# Altium footprint library Testboard.PcbLib: 2 footprints
Each footprint in its own frame and in the unit in brackets; x right, y up, seen from the top. Pads: shape width x height; smd on the part's side, far side on the other; paste and mask are expansions set on the pad; w line width, h text height; cw(c..) or ccw(c..) is an arc to the next point about the centre after c.
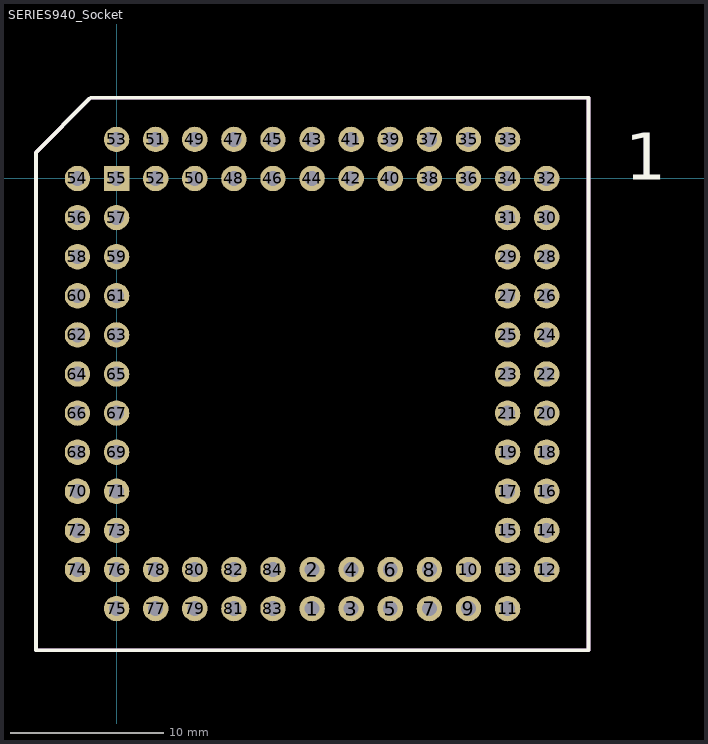
[diagram p0: the footprints below, top view; thin cyan lines are the x and y axes]

## PCBComponent_1 [mil]

## SERIES940_Socket [mil]
pads (84):
  round 65 hole 38: 1(500,-1100) 2(500,-1000) 3(600,-1100) 4(600,-1000) 5(700,-1100) 6(700,-1000) 7(800,-1100) 8(800,-1000) 9(900,-1100) 10(900,-1000) 11(1000,-1100) 12(1100,-1000) 13(1000,-1000) 14(1100,-900) 15(1000,-900) 16(1100,-800) 17(1000,-800) 18(1100,-700) 19(1000,-700) 20(1100,-600) 21(1000,-600) 22(1100,-500) 23(1000,-500) 24(1100,-400) 25(1000,-400) 26(1100,-300) 27(1000,-300) 28(1100,-200) 29(1000,-200) 30(1100,-100) 31(1000,-100) 32(1100,0) 33(1000,100) 34(1000,0) 35(900,100) 36(900,0) 37(800,100) 38(800,0) 39(700,100) 40(700,0) 41(600,100) 42(600,0) 43(500,100) 44(500,0) 45(400,100) 46(400,0) 47(300,100) 48(300,0) 49(200,100) 50(200,0) 51(100,100) 52(100,0) 53(0,100) 54(-100,0) 56(-100,-100) 57(0,-100) 58(-100,-200) 59(0,-200) 60(-100,-300) 61(0,-300) 62(-100,-400) 63(0,-400) 64(-100,-500) 65(0,-500) 66(-100,-600) 67(0,-600) 68(-100,-700) 69(0,-700) 70(-100,-800) 71(0,-800) 72(-100,-900) 73(0,-900) 74(-100,-1000) 75(0,-1100) 76(0,-1000) 77(100,-1100) 78(100,-1000) 79(200,-1100) 80(200,-1000) 81(300,-1100) 82(300,-1000) 83(400,-1100) 84(400,-1000)
  rect 65x65 hole 38: 55(0,0)
Top Overlay:
  lines w10: -206.5,65 -206.5,-1206.5 1206.5,-1206.5 1206.5,206.5 -65,206.5 ; -205,68 -70,203
  text "1" at 1301,-3 h120
Mechanical 29:
  lines w10: -206.5,65 -206.5,-1206.5 1206.5,-1206.5 1206.5,206.5 -65,206.5 ; -205,68 -70,203
  text "'.Designator'" at 320,-540.01 h120
3D body "1-822473-7.stp": height 319.4, standoff -143.2, extent -206.29,-1206.29 1206.3,206.3